# Altium footprint library MOLEX-08_90.PcbLib: 1 footprints
Each footprint in its own frame and in the unit in brackets; x right, y up, seen from the top. Pads: shape width x height; smd on the part's side, far side on the other; paste and mask are expansions set on the pad; w line width, h text height; cw(c..) or ccw(c..) is an arc to the next point about the centre after c.
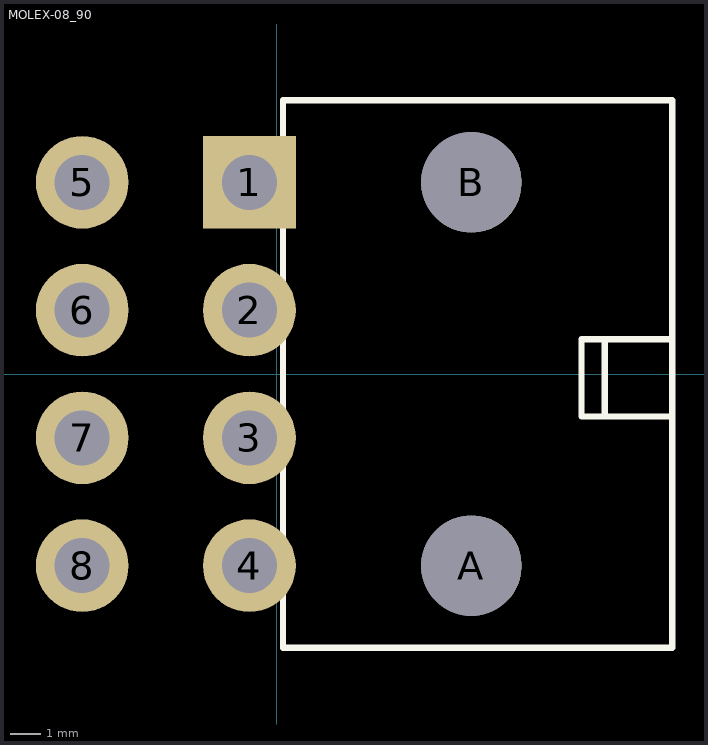
[diagram p0: the footprint, top view; thin cyan lines are the x and y axes]

## MOLEX-08_90 [mil]
pads (10):
  rect 120x120 hole 71: 1(-35.43,248.03)
  round 120 hole 71: 2(-35.43,82.68) 3(-35.43,-82.68) 4(-35.43,-248.03) 5(-251.97,248.03) 6(-251.97,82.68) 7(-251.97,-82.68) 8(-251.97,-248.03)
  round 130 hole 130 unplated: A(251.97,-248.03) B(251.97,248.03)
TopOverlay:
  lines w8: 424.57,-55.12 424.57,44.88 ; 511.81,-55.12 394.57,-55.12 394.57,44.88 511.81,44.88 ; 7.87,-354.33 7.87,354.33 511.81,354.33 511.81,-354.33 7.87,-354.33